# Altium schematic symbol library DIODE,TVS,3.3VWM,6.2VC,SOD-923F.Schlib: 1 symbol
Pins are listed as number, name and electrical type; pins without a type are passive.

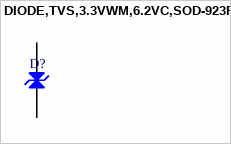
[diagram p0: symbol DIODE,TVS,3.3VWM,6.2VC,SOD-923F]

## DIODE,TVS,3.3VWM,6.2VC,SOD-923F
designator D?
pins: 1 K, 2 A